# Altium schematic symbol library add-schematic-library.SchLib: 14 symbols
Pins are listed as number, name and electrical type; pins without a type are passive.

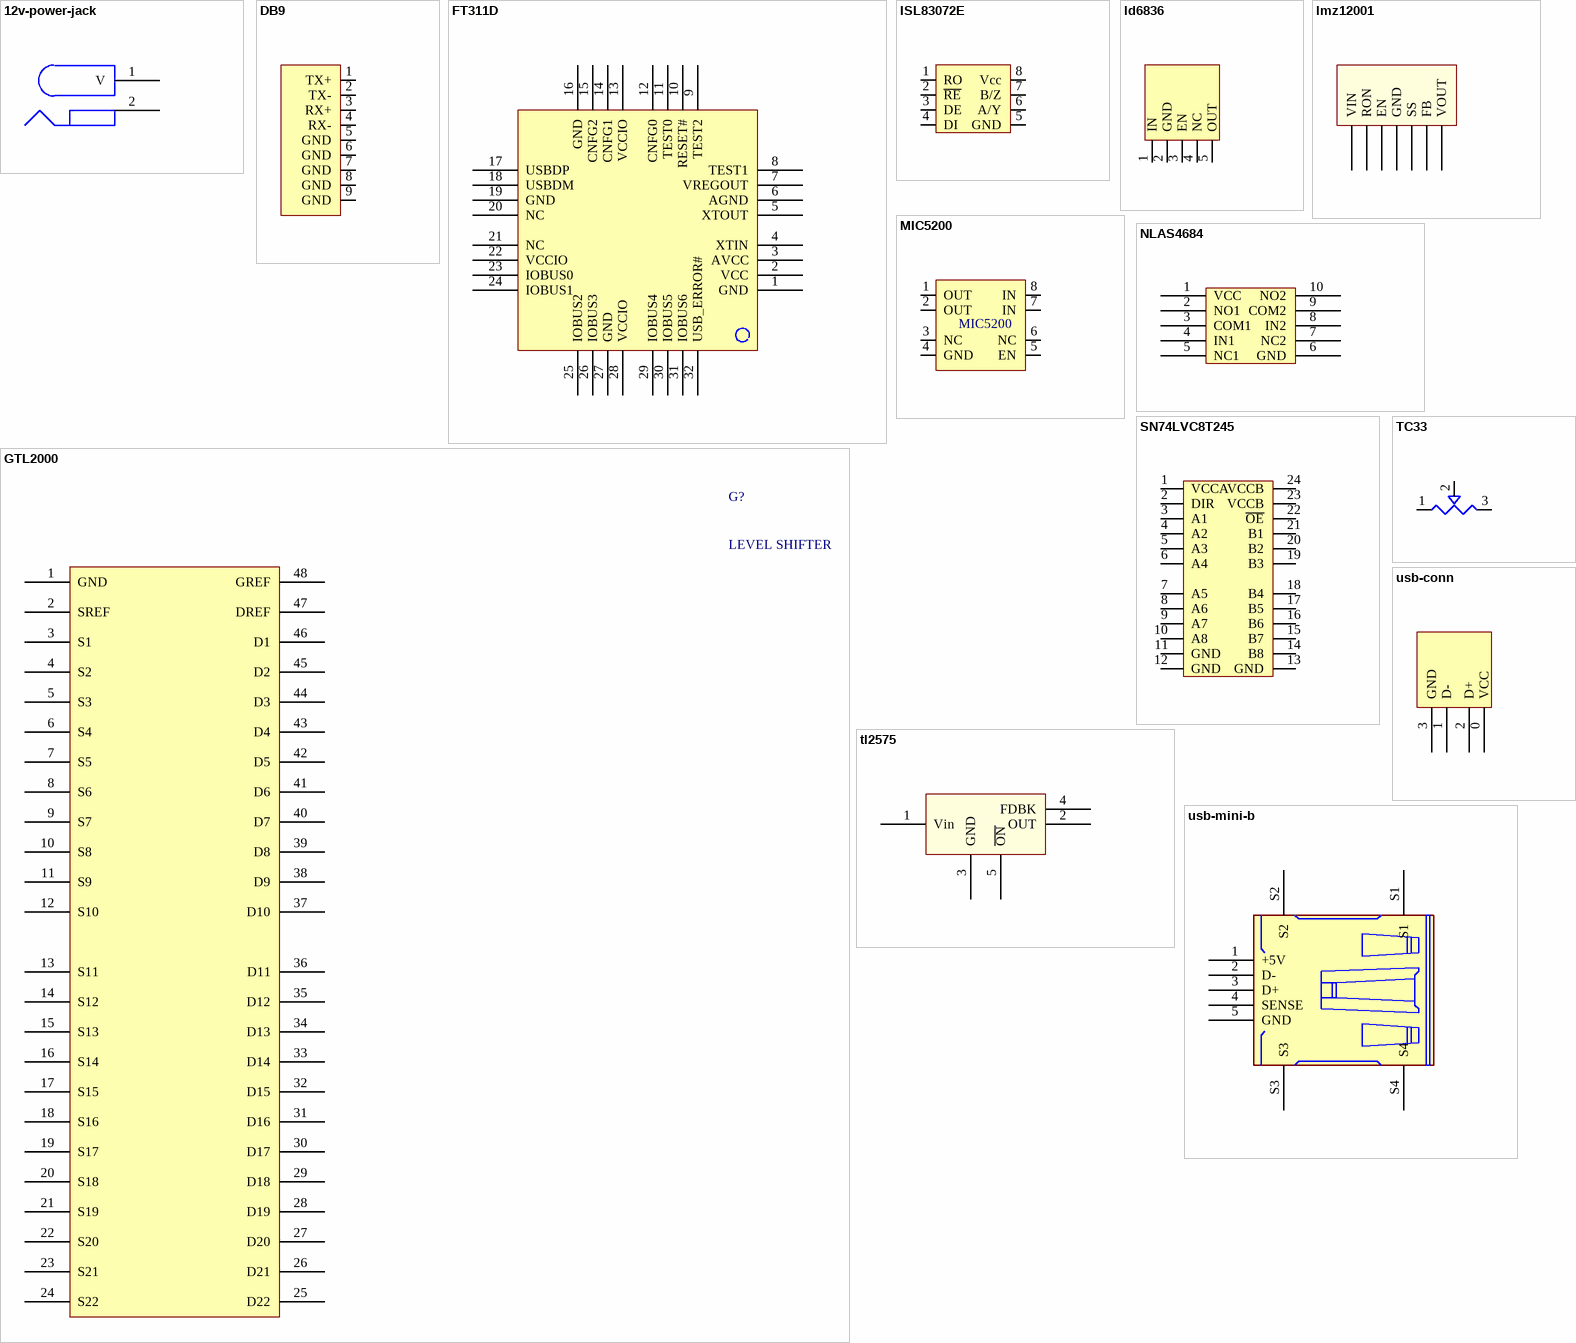
[diagram p0: symbols 12v-power-jack to usb-mini-b]

## 12v-power-jack
designator PJ?, comment power-jack
Power Jack (12V Preferably); Published: 31-Jul-2013; LatestRevisionDate: 31-Jul-2013; LatestRevisionNote: Re-released for DXP Platform.; PackageReference: PJ; Publisher: Altium Limited; PackageDescription: Power-Jack; Creator: Manas-Bellani
pins: 1 V, 2 GND

## DB9
designator DB?, comment DB9 Connector  (value not drawn)
9 Pin Female Serial Connector - PCB Mount; Supplier: https://www.sparkfun.com/products/429
footprint DB9 (DB9 Serial Port connector e.g. RS 422/232 Communication)
pins: 1 TX+, 2 TX-, 3 RX+, 4 RX-, 5 GND, 6 GND, 7 GND, 8 GND, 9 GND

## FT311D
designator FT?  (value not drawn)
USB ANDROID Host IC; Manufacturer Part No: FT311D-32L1C-R-IC; Digital IC Case Style: LQFP; Farnell (09/02/2013): $6.08
footprint LQFP-32P (Low Profile Quad Flat Package - 32 Pins (e.g. FT311D - USB Android Host IC))
pins: 1 GND, 2 VCC, 3 AVCC, 4 XTIN, 5 XTOUT, 6 AGND, 7 VREGOUT, 8 TEST1, 9 TEST2, 10 RESET#, 11 TEST0, 12 CNFG0, 13 VCCIO, 14 CNFG1, 15 CNFG2, 16 GND, 17 USBDP, 18 USBDM, 19 GND, 20 NC, 21 NC, 22 VCCIO, 23 IOBUS0, 24 IOBUS1, 25 IOBUS2, 26 IOBUS3, 27 GND, 28 VCCIO, 29 IOBUS4, 30 IOBUS5, 31 IOBUS6, 32 USB_ERROR#

## GTL2000
designator G?, comment LEVEL SHIFTER
PHILIPS SEMICONDUCTOR LEVEL SHIFTER
footprint SSOP48 (SOP, 48-Leads, Body 16.0x0.2mm (max), Pitch 0.63mm, IPC Medium Density (e.g. Philips GTL2000 CMOS level shifter))
pins: 1 GND, 2 SREF, 3 S1, 4 S2, 5 S3, 6 S4, 7 S5, 8 S6, 9 S7, 10 S8, 11 S9, 12 S10, 13 S11, 14 S12, 15 S13, 16 S14, 17 S15, 18 S16, 19 S17, 20 S18, 21 S19, 22 S20, 23 S21, 24 S22, 25 D22, 26 D21, 27 D20, 28 D19, 29 D18, 30 D17, 31 D16, 32 D15, 33 D14, 34 D13, 35 D12, 36 D11, 37 D10, 38 D9, 39 D8, 40 D7, 41 D6, 42 D5, 43 D4, 44 D3, 45 D2, 46 D1, 47 DREF, 48 GREF

## ISL83072E
designator TR?  (value not drawn)
RS-422 TRANSCEIVER; Part Link: http://www.digikey.com.au/product-detail/en/ISL83072EIUZA-T/ISL83072EIUZA-TCT-ND/1034253
footprint MSOP
pins: 1 RO, 2 ~{RE}, 3 DE, 4 DI, 5 GND, 6 A/Y, 7 B/Z, 8 Vcc

## ld6836
designator REG?, comment REGULATOR
5V TO 3.3V ULTRA LOW DROPOUT REGULATOR; DIGIKEY_PART: 568-10079-1-ND; DIGIKEY_VALUE: $0.45
footprint SOT753 (SOT753, 5-Leads, Body 3.0x3.0mm (max), Pitch 0.95mm, IPC Medium Density)
pins: 1 IN, 2 GND, 3 EN, 4 NC, 5 OUT

## lmz12001
designator DC?, comment DC-DC SWITCHER  (value not drawn)
footprint PFM-7 (Footprint with 7 pins for LMZ12001 - DC-DC converter)
pins: 1 VIN, 2 RON, 3 EN, 4 GND, 5 SS, 6 FB, 7 VOUT

## MIC5200
designator BT?, comment LINEAR REGULATOR
3.3V, 100mA LINEAR REGULATOR; Published: 24-Mar-1999; LatestRevisionDate: 17-Jul-2002; LatestRevisionNote: Re-released for DXP Platform.; PackageReference: BAT-2; Publisher: Altium Limited; PackageDescription: Battery; 2 Leads
footprint SO8
pins: 1 OUT, 2 OUT, 3 NC, 4 GND, 5 EN, 6 NC, 7 IN, 8 IN

## NLAS4684
designator U?, comment Dual Analog Switches
Ultra-low resistance dual SPDT Analog switch
footprint Micro10 (Micro10 package for e.g. nlas4684)
pins: 1 VCC, 2 NO1, 3 COM1, 4 IN1, 5 NC1, 6 GND, 7 NC2, 8 IN2, 9 COM2, 10 NO2

## SN74LVC8T245
designator BU?, comment BUS TRANSCEIVER  (value not drawn)
8-BIT DUAL-SUPPLY BUS TRANSCEIVER WITH CONFIGURABLE VOLTAGE TRANSLATION AND 3-STATE OUTPUTS
footprint TSSOP24
pins: 1 VCCA, 2 DIR, 3 A1, 4 A2, 5 A3, 6 A4, 7 A5, 8 A6, 9 A7, 10 A8, 11 GND, 12 GND, 13 GND, 14 B8, 15 B7, 16 B6, 17 B5, 18 B4, 19 B3, 20 B2, 21 B1, 22 ~{OE}, 23 VCCB, 24 VCCB

## TC33
designator POT?, comment value 10k  (hidden comment: Trimmer)
3mm SMD Trimming Pot; Manufacturer: Bourns
footprint TC33 (TC33 - 3mm SMD Trimming Pot)
pins: 1 CCW, 2 WIPER, 3 CW

## tl2575
designator tl?, comment REG  (value not drawn)
TI Regulator; farnell-link-1: http://au.element14.com/texas-instruments/tl2575-05ikttr/ic-step-down-regulator-d2pak-5/dp/1575008; digikey: http://www.digikey.com/product-detail/en/TL2575HV-05IKTTR/296-21833-1-ND/1629211
pins: 1 Vin, 2 OUT, 3 GND, 4 FDBK, 5 ~{ON}

## usb-conn
designator USB?, comment USB CONNECTOR  (value not drawn)
footprint USBA (Usb Male Type connector (e.g. to connect to the tablet))
pins: 0 VCC, 1 D-, 2 D+, 3 GND

## usb-mini-b
designator BT?, comment Battery
Multicell Battery; Published: 24-Mar-1999; LatestRevisionDate: 17-Jul-2002; LatestRevisionNote: Re-released for DXP Platform.; PackageReference: BAT-2; Publisher: Altium Limited; PackageDescription: Battery; 2 Leads
pins: 1 +5V, 2 D-, 3 D+, 4 SENSE, 5 GND, S1, S2, S3, S4